# Altium schematic symbol library OSP_Symbols.SchLib: 53 symbols
Pins are listed as number, name and electrical type; pins without a type are passive.

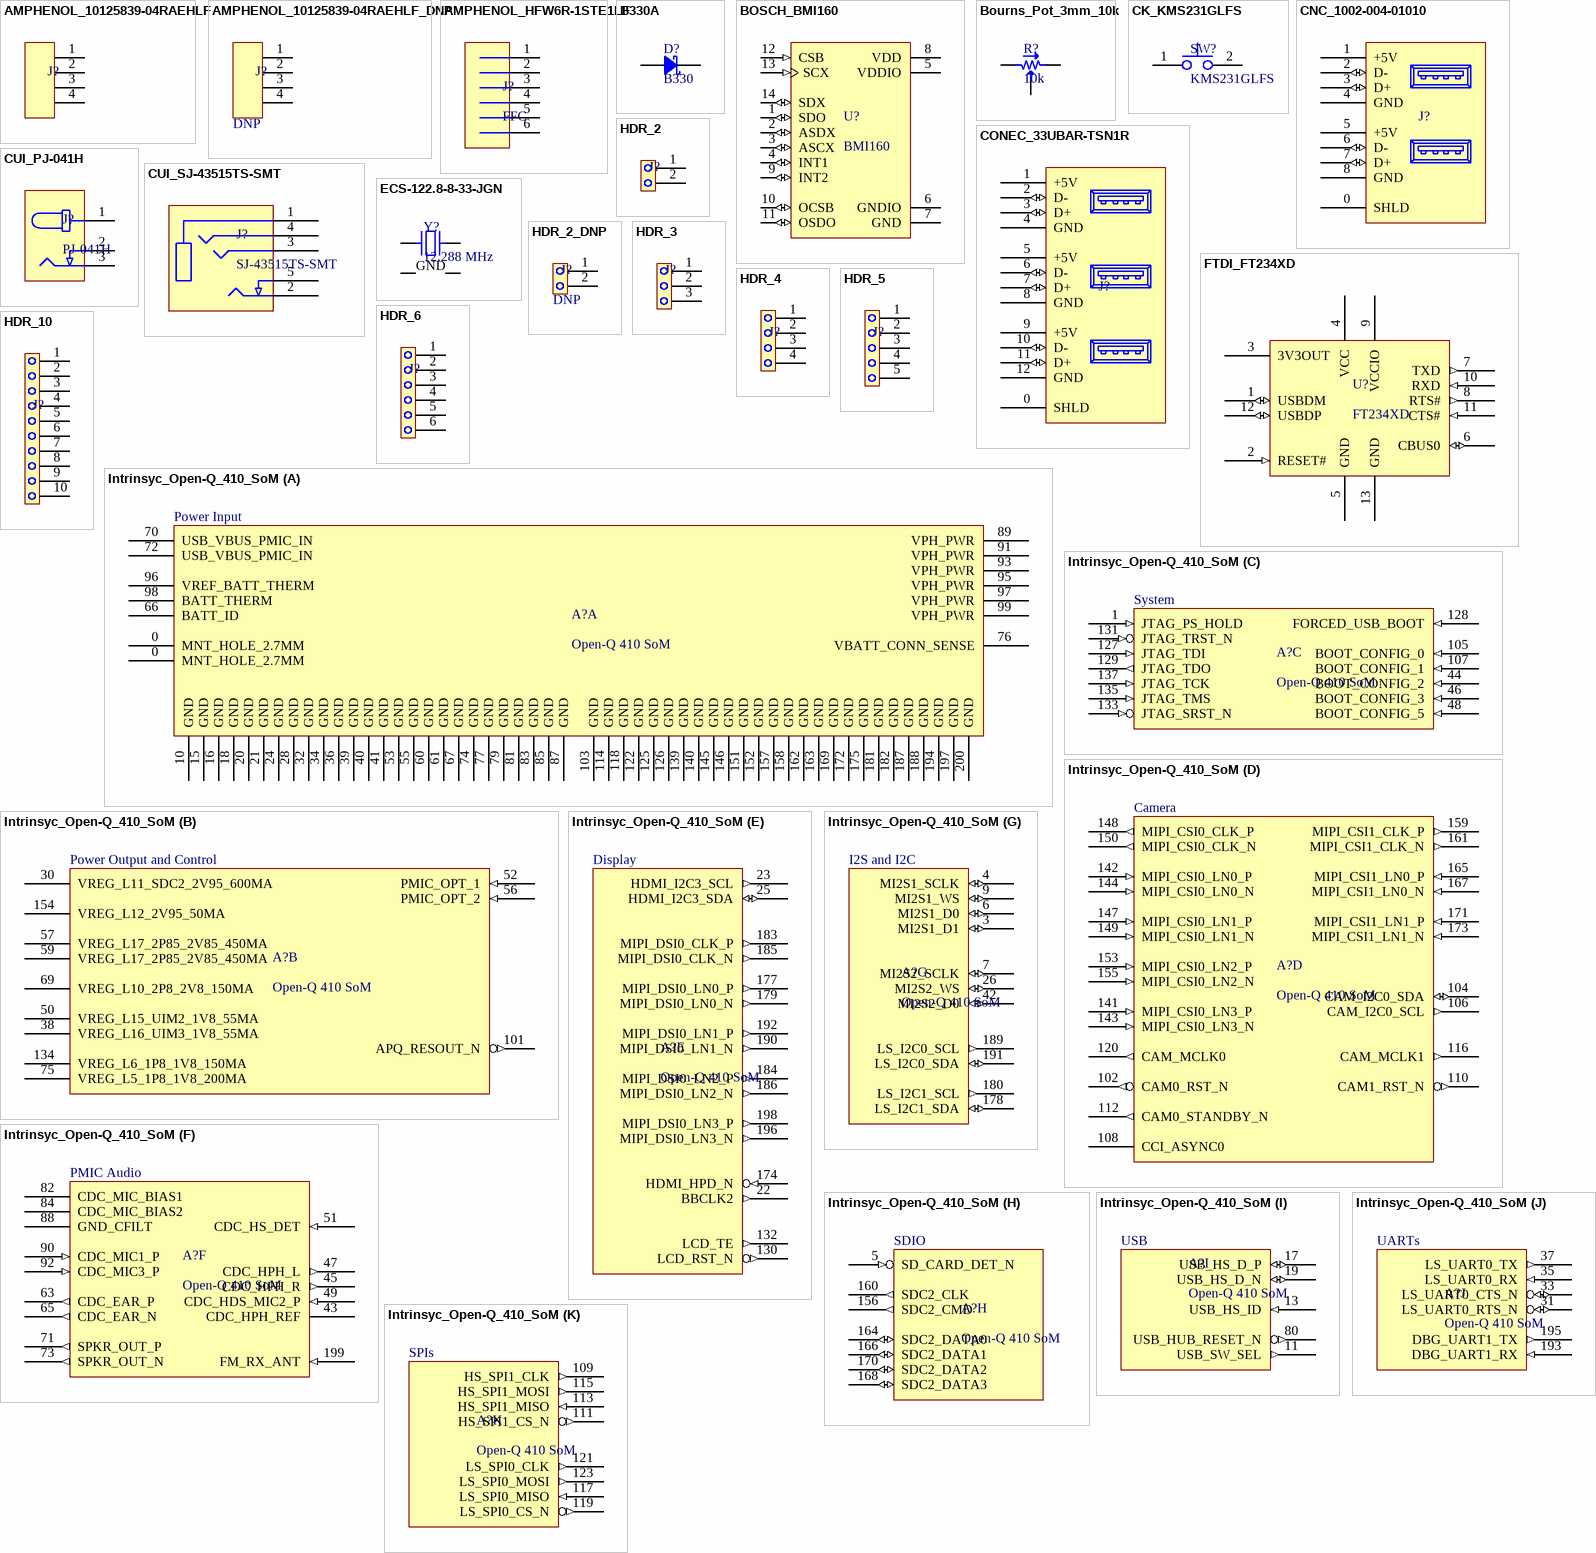
[diagram p0: symbols AMPHENOL_10125839-04RAEHLF to Intrinsyc_Open-Q_410_SoM]

## AMPHENOL_10125839-04RAEHLF
designator J?, comment Shallow  (value not drawn)
Amphenol 10125839-04RAEHLF
footprint AMPHENOL_10125839-04RAEHLF (Amphenol 10125839-04RAEHLF 4-pin shallow SMD connector)
pins: 1, 2, 3, 4

## AMPHENOL_10125839-04RAEHLF_DNP
designator J?, comment Shallow  (value not drawn)
Amphenol 10125839-04RAEHLF (Do Not Populate); DNP: DNP
footprint AMPHENOL_10125839-04RAEHLF_DNP (Amphenol 10125839-04RAEHLF 4-pin shallow SMD connector (DO NOT POPULATE))
pins: 1, 2, 3, 4

## AMPHENOL_HFW6R-1STE1LF
designator J?, comment FFC
Amphenol HFW6R-1STE1LF 6-pin flat flexible cable connector
footprint AMPHENOL_HFW6R-1STE1LF (Amphenol HFW6R-1STE1LF 6-pin flat flexible cable connector)
pins: 1, 2, 3, 4, 5, 6

## B330A
designator D?, comment B330
B330AE-13 Schottky Diode 3A 30V
footprint DO214AC SMA (Molded Diode, 2-Leads, Body 4.30x2.60mm, IPC Medium Density)
pins: 1, 2

## BOSCH_BMI160
designator U?, comment BMI160
BMI160 2.5 x 3 mm Tiaxial Accelerometer / Gyroscope Inertial Measurement Unit
footprint BOSCH_LGA14 (Bosch BMI160)
pins: 1 SDO (io), 2 ASDX (io), 3 ASCX (io), 4 INT1 (io), 5 VDDIO (power), 6 GNDIO (power), 7 GND (power), 8 VDD (power), 9 INT2 (io), 10 OCSB (io), 11 OSDO (io), 12 CSB (in), 13 SCX (in), 14 SDX (io)

## Bourns_Pot_3mm_10k
designator R?, comment 10k
3mm trimpot, 10k ohms
footprint BOURNS_TC33 (TC33 3mm trimpot)
pins: 1, 2, 3

## CK_KMS231GLFS
designator SW?, comment KMS231GLFS
C&K KMS231GLFS Right-angle SMT Tact Switch
footprint CK_KMS231GLFS (C&K KMS231GLFS Right-angle SMT Tact Switch)
pins: 1, 2

## CNC_1002-004-01010
designator J?  (value not drawn)
2x Stacked USB A Connector
footprint CNC_USBA_DUAL (2x USB A ports, 1002-004-01010)
pins: 0 SHLD (power), 1 +5V (power), 2 D- (io), 3 D+ (io), 4 GND (power), 5 +5V (power), 6 D- (io), 7 D+ (io), 8 GND (power)

## CONEC_33UBAR-TSN1R
designator J?  (value not drawn)
3x Stacked USB A Connector
footprint CONEC_33UBAR-TSN1R (3x USB A port)
pins: 0 SHLD (power), 1 +5V (power), 2 D- (io), 3 D+ (io), 4 GND (power), 5 +5V (power), 6 D- (io), 7 D+ (io), 8 GND (power), 9 +5V (power), 10 D- (io), 11 D+ (io), 12 GND (power)

## CUI_PJ-041H
designator J?, comment PJ-041H
CUI PJ-041H 1.65mm DC power jack
footprint CUI_PJ-041H (1.65mm DC power jack)
pins: 1 (power), 2 (power), 3 (power)

## CUI_SJ-43515TS-SMT
designator J?, comment SJ-43515TS-SMT
CUI SJ-43515TS-SMT 4-pos Switched Headphone Jack
footprint CUI_SJ-43515TS-SMT (CUI SJ-43515TS-SMT 4-pos Switched Headphone Jack)
pins: 1, 2, 3, 4, 5

## ECS-122.8-8-33-JGN
designator Y?, comment 12.288 MHz
ECS 12.288 MHz 8pF SMD Crystal ECS-122.8-8-33-JGN-TR
footprint XTAL_3.2x2.5 (Standard 4-pin SMT crystal, from ECS 32 datasheet)
pins: 1, 2 GND, 3, 4 GND

## FTDI_FT234XD
designator U?, comment FT234XD
FTDI FT234XD USB to UART
footprint FTDI_DFN12 (DFN/SON)
pins: 1 USBDM (io), 2 RESET# (in), 3 3V3OUT (power), 4 VCC (power), 5 GND (power), 6 CBUS0 (io), 7 TXD (out), 8 RTS# (out), 9 VCCIO (power), 10 RXD (in), 11 CTS# (in), 12 USBDP (io), 13 GND (power)

## HDR_2
designator J?  (value not drawn)
2-pin 0.1" header
footprint HDR_2 (2-pin 0.1" header)
pins: 1, 2

## HDR_2_DNP
designator J?  (value not drawn)
2-pin 0.1" header (no model); DNP: DNP
footprint HDR_2_DNP (2-pin 0.1" header (no model))
pins: 1, 2

## HDR_3
designator J?  (value not drawn)
3-pin 0.1" header
footprint HDR_3 (3-pin 0.1" header)
pins: 1, 2, 3

## HDR_4
designator J?  (value not drawn)
4-pin 0.1" header
footprint HDR_4 (4-pin 0.1" header)
pins: 1, 2, 3, 4

## HDR_5
designator J?  (value not drawn)
5-pin 0.1" header
footprint HDR_5 (5-pin 0.1" header)
pins: 1, 2, 3, 4, 5

## HDR_6
designator J?  (value not drawn)
6-pin 0.1" header
footprint HDR_6 (6-pin 0.1" header)
pins: 1, 2, 3, 4, 5, 6

## HDR_10
designator J?  (value not drawn)
10-pin 0.1" header
footprint HDR_10 (10-pin 0.1" header)
pins: 1, 2, 3, 4, 5, 6, 7, 8, 9, 10

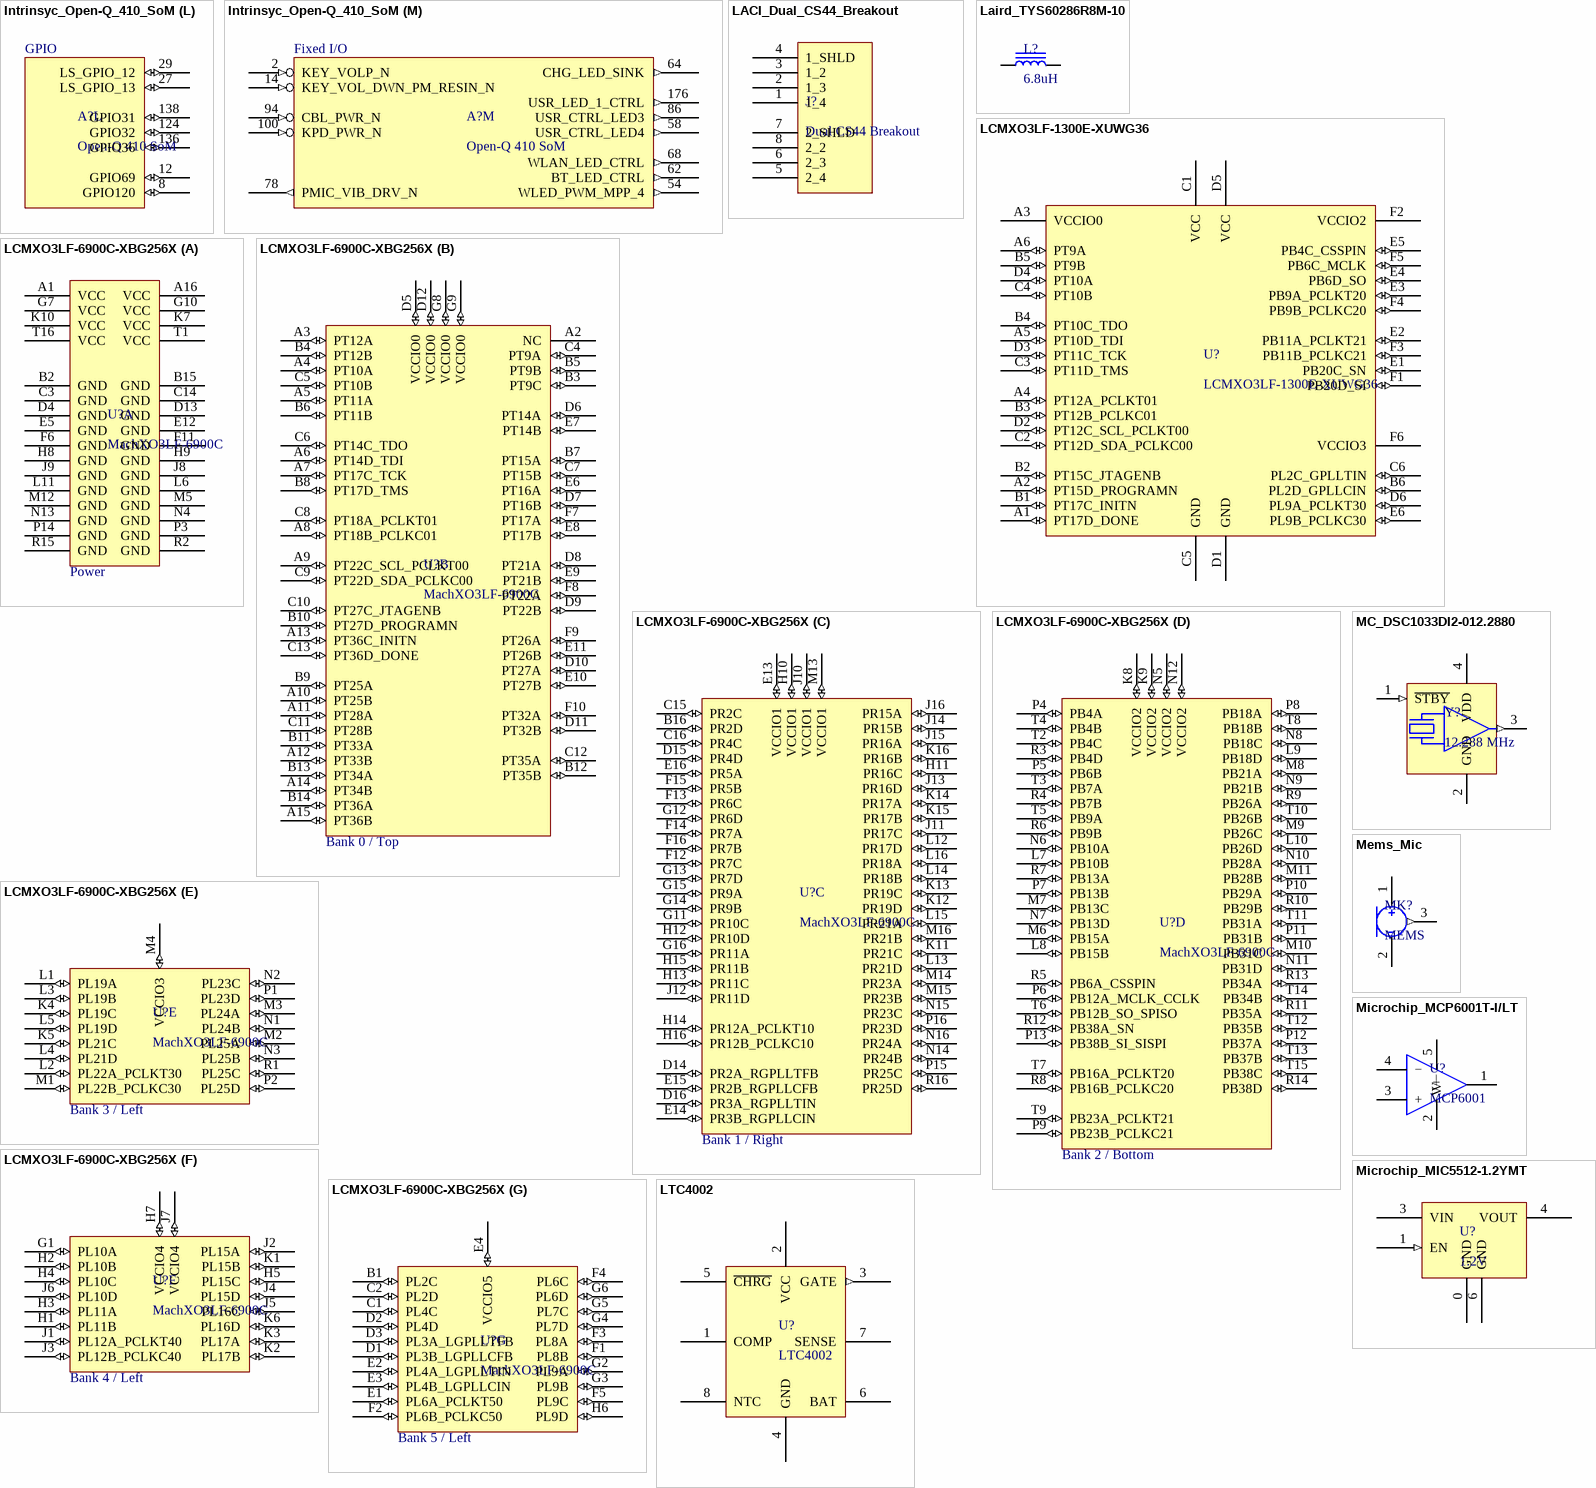
[diagram p1: symbols Intrinsyc_Open-Q_410_SoM to Microchip_MIC5512-1.2YMT]

## Intrinsyc_Open-Q_410_SoM
designator A?, comment Open-Q 410 SoM
Intrinsyc Open-Q 410 System on Module (APQ8016)
footprint OpenQ-410 (OpenQ-410 2x100 pin connector, APQ8016 SOM 26.5mmx44mm)
part A pins: 0 MNT_HOLE_2.7MM, 0 MNT_HOLE_2.7MM, 10 GND (power), 15 GND (power), 16 GND (power), 18 GND (power), 20 GND (power), 21 GND (power), 24 GND (power), 28 GND (power), 32 GND (power), 34 GND (power), 36 GND (power), 39 GND (power), 40 GND (power), 41 GND (power), 53 GND (power), 55 GND (power), 60 GND (power), 61 GND (power), 66 BATT_ID, 67 GND (power), 70 USB_VBUS_PMIC_IN (power), 72 USB_VBUS_PMIC_IN (power), 74 GND (power), 76 VBATT_CONN_SENSE, 77 GND (power), 79 GND (power), 81 GND (power), 83 GND (power), 85 GND (power), 87 GND (power), 89 VPH_PWR (power), 91 VPH_PWR (power), 93 VPH_PWR (power), 95 VPH_PWR (power), 96 VREF_BATT_THERM, 97 VPH_PWR (power), 98 BATT_THERM, 99 VPH_PWR (power), 103 GND (power), 114 GND (power), 118 GND (power), 122 GND (power), 125 GND (power), 126 GND (power), 139 GND (power), 140 GND (power), 145 GND (power), 146 GND (power), 151 GND (power), 152 GND (power), 157 GND (power), 158 GND (power), 162 GND (power), 163 GND (power), 169 GND (power), 172 GND (power), 175 GND (power), 181 GND (power), 182 GND (power), 187 GND (power), 188 GND (power), 194 GND (power), 197 GND (power), 200 GND (power)
part B pins: 30 VREG_L11_SDC2_2V95_600MA (power), 38 VREG_L16_UIM3_1V8_55MA (power), 50 VREG_L15_UIM2_1V8_55MA (power), 52 PMIC_OPT_1 (in), 56 PMIC_OPT_2 (in), 57 VREG_L17_2P85_2V85_450MA (power), 59 VREG_L17_2P85_2V85_450MA (power), 69 VREG_L10_2P8_2V8_150MA (power), 75 VREG_L5_1P8_1V8_200MA (power), 101 APQ_RESOUT_N (out), 134 VREG_L6_1P8_1V8_150MA (power), 154 VREG_L12_2V95_50MA (power)
part C pins: 1 JTAG_PS_HOLD (in), 44 BOOT_CONFIG_2 (in), 46 BOOT_CONFIG_3 (in), 48 BOOT_CONFIG_5 (in), 105 BOOT_CONFIG_0 (in), 107 BOOT_CONFIG_1 (in), 127 JTAG_TDI (in), 128 FORCED_USB_BOOT (in), 129 JTAG_TDO (out), 131 JTAG_TRST_N (in), 133 JTAG_SRST_N (in), 135 JTAG_TMS (in), 137 JTAG_TCK (in)
part D pins: 102 CAM0_RST_N (out), 104 CAM_I2C0_SDA (io), 106 CAM_I2C0_SCL (out), 108 CCI_ASYNC0, 110 CAM1_RST_N (out), 112 CAM0_STANDBY_N (out), 116 CAM_MCLK1 (out), 120 CAM_MCLK0 (out), 141 MIPI_CSI0_LN3_P (in), 142 MIPI_CSI0_LN0_P (in), 143 MIPI_CSI0_LN3_N (in), 144 MIPI_CSI0_LN0_N (in), 147 MIPI_CSI0_LN1_P (in), 148 MIPI_CSI0_CLK_P (out), 149 MIPI_CSI0_LN1_N (in), 150 MIPI_CSI0_CLK_N (out), 153 MIPI_CSI0_LN2_P (in), 155 MIPI_CSI0_LN2_N (in), 159 MIPI_CSI1_CLK_P (out), 161 MIPI_CSI1_CLK_N (out), 165 MIPI_CSI1_LN0_P (in), 167 MIPI_CSI1_LN0_N (in), 171 MIPI_CSI1_LN1_P (in), 173 MIPI_CSI1_LN1_N (in)
part E pins: 22 BBCLK2 (out), 23 HDMI_I2C3_SCL (out), 25 HDMI_I2C3_SDA (io), 130 LCD_RST_N (out), 132 LCD_TE (out), 174 HDMI_HPD_N (in), 177 MIPI_DSI0_LN0_P (out), 179 MIPI_DSI0_LN0_N (out), 183 MIPI_DSI0_CLK_P (out), 184 MIPI_DSI0_LN2_P (out), 185 MIPI_DSI0_CLK_N (out), 186 MIPI_DSI0_LN2_N (out), 190 MIPI_DSI0_LN1_N (out), 192 MIPI_DSI0_LN1_P (out), 196 MIPI_DSI0_LN3_N (out), 198 MIPI_DSI0_LN3_P (out)
part F pins: 43 CDC_HPH_REF (power), 45 CDC_HPH_R (out), 47 CDC_HPH_L (out), 49 CDC_HDS_MIC2_P (in), 51 CDC_HS_DET (in), 63 CDC_EAR_P (out), 65 CDC_EAR_N (out), 71 SPKR_OUT_P (out), 73 SPKR_OUT_N (out), 82 CDC_MIC_BIAS1 (power), 84 CDC_MIC_BIAS2 (power), 88 GND_CFILT (power), 90 CDC_MIC1_P (in), 92 CDC_MIC3_P (in), 199 FM_RX_ANT (in)
part G pins: 3 MI2S1_D1 (io), 4 MI2S1_SCLK (io), 6 MI2S1_D0 (io), 7 MI2S2_SCLK (io), 9 MI2S1_WS (io), 26 MI2S2_WS (io), 42 MI2S2_D0 (io), 178 LS_I2C1_SDA (io), 180 LS_I2C1_SCL (out), 189 LS_I2C0_SCL (out), 191 LS_I2C0_SDA (io)
part H pins: 5 SD_CARD_DET_N (in), 156 SDC2_CMD (out), 160 SDC2_CLK (out), 164 SDC2_DATA0 (io), 166 SDC2_DATA1 (io), 168 SDC2_DATA3 (io), 170 SDC2_DATA2 (io)
part I pins: 11 USB_SW_SEL (out), 13 USB_HS_ID (in), 17 USB_HS_D_P (io), 19 USB_HS_D_N (io), 80 USB_HUB_RESET_N (out)
part J pins: 31 LS_UART0_RTS_N (io), 33 LS_UART0_CTS_N (io), 35 LS_UART0_RX (in), 37 LS_UART0_TX (out), 193 DBG_UART1_RX (in), 195 DBG_UART1_TX (out)
part K pins: 109 HS_SPI1_CLK (out), 111 HS_SPI1_CS_N (out), 113 HS_SPI1_MISO (in), 115 HS_SPI1_MOSI (out), 117 LS_SPI0_MISO (in), 119 LS_SPI0_CS_N (out), 121 LS_SPI0_CLK (out), 123 LS_SPI0_MOSI (out)
part L pins: 8 GPIO120 (io), 12 GPIO69 (io), 27 LS_GPIO_13 (io), 29 LS_GPIO_12 (io), 124 GPIO32 (io), 136 GPIO36 (io), 138 GPIO31 (io)
part M pins: 2 KEY_VOLP_N (in), 14 KEY_VOL_DWN_PM_RESIN_N (in), 54 WLED_PWM_MPP_4 (out), 58 USR_CTRL_LED4 (out), 62 BT_LED_CTRL (out), 64 CHG_LED_SINK (out), 68 WLAN_LED_CTRL (out), 78 PMIC_VIB_DRV_N (out), 86 USR_CTRL_LED3 (out), 94 CBL_PWR_N (in), 100 KPD_PWR_N (in), 176 USR_LED_1_CTRL (out)
part A text: Power Input
part B text: Power Output and Control
part C text: System
part D text: Camera
part E text: Display
part F text: PMIC Audio
part G text: I2S and I2C
part H text: SDIO
part I text: USB
part J text: UARTs
part K text: SPIs
part L text: GPIO
part M text: Fixed I/O

## LACI_Dual_CS44_Breakout
designator J?, comment Dual CS44 Breakout
LACI Dual Sonion CS44 Breakout Board
footprint LACI_DUAL_CS44_BREAKOUT (LACI Dual Sonion CS44 Breakout Board)
pins: 1 1_4, 2 1_3, 3 1_2, 4 1_SHLD, 5 2_4, 6 2_3, 7 2_SHLD, 8 2_2

## Laird_TYS60286R8M-10
designator L?, comment 6.8uH
Laird TYS60286R8M-10 6.8uH 2.4A 47mOhms
footprint LAIRD_TYS6028 (Laird TYS6028 series inductor)
pins: 1, 2

## LCMXO3LF-1300E-XUWG36
designator U?
Lattice MachXO3 36-ball 2.5x2.5mm FPGA
footprint BGA36_WLCS_25x25_MachXO3 (Lattice MachXO3 WLCSP36)
pins: A1 PT17D_DONE (io), A2 PT15D_PROGRAMN (io), A3 VCCIO0 (power), A4 PT12A_PCLKT01 (io), A5 PT10D_TDI (io), A6 PT9A (io), B1 PT17C_INITN (io), B2 PT15C_JTAGENB (io), B3 PT12B_PCLKC01 (io), B4 PT10C_TDO (io), B5 PT9B (io), B6 PL2D_GPLLCIN (io), C1 VCC (power), C2 PT12D_SDA_PCLKC00 (io), C3 PT11D_TMS (io), C4 PT10B (io), C5 GND (power), C6 PL2C_GPLLTIN (io), D1 GND (power), D2 PT12C_SCL_PCLKT00 (io), D3 PT11C_TCK (io), D4 PT10A (io), D5 VCC (power), D6 PL9A_PCLKT30 (io), E1 PB20C_SN (io), E2 PB11A_PCLKT21 (io), E3 PB9A_PCLKT20 (io), E4 PB6D_SO (io), E5 PB4C_CSSPIN (io), E6 PL9B_PCLKC30 (io), F1 PB20D_SI (io), F2 VCCIO2 (power), F3 PB11B_PCLKC21 (io), F4 PB9B_PCLKC20 (io), F5 PB6C_MCLK (io), F6 VCCIO3 (power)

## LCMXO3LF-6900C-XBG256X
designator U?, comment MachXO3LF-6900C
Lattice MachXO3LF-6900C-5BG256C FPGA
footprint LCMXO3_caBGA_BG256 (BGA, 256-Leads, Body 14.00x14.00mmx1.70mm, Pitch 0.80mm)
part A pins: A1 VCC (power), A16 VCC (power), B2 GND (power), B15 GND (power), C3 GND (power), C14 GND (power), D4 GND (power), D13 GND (power), E5 GND (power), E12 GND (power), F6 GND (power), F11 GND (power), G7 VCC (power), G10 VCC (power), H8 GND (power), H9 GND (power), J8 GND (power), J9 GND (power), K7 VCC (power), K10 VCC (power), L6 GND (power), L11 GND (power), M5 GND (power), M12 GND (power), N4 GND (power), N13 GND (power), P3 GND (power), P14 GND (power), R2 GND (power), R15 GND (power), T1 VCC (power), T16 VCC (power)
part B pins: A2 NC, A3 PT12A (io), A4 PT10A (io), A5 PT11A (io), A6 PT14D_TDI (io), A7 PT17C_TCK (io), A8 PT18B_PCLKC01 (io), A9 PT22C_SCL_PCLKT00 (io), A10 PT25B (io), A11 PT28A (io), A12 PT33B (io), A13 PT36C_INITN (io), A14 PT34B (io), A15 PT36B (io), B3 PT9C (io), B4 PT12B (io), B5 PT9B (io), B6 PT11B (io), B7 PT15A (io), B8 PT17D_TMS (io), B9 PT25A (io), B10 PT27D_PROGRAMN (io), B11 PT33A (io), B12 PT35B (io), B13 PT34A (io), B14 PT36A (io), C4 PT9A (io), C5 PT10B (io), C6 PT14C_TDO (io), C7 PT15B (io), C8 PT18A_PCLKT01 (io), C9 PT22D_SDA_PCLKC00 (io), C10 PT27C_JTAGENB (io), C11 PT28B (io), C12 PT35A (io), C13 PT36D_DONE (io), D5 VCCIO0 (io), D6 PT14A (io), D7 PT16B (io), D8 PT21A (io), D9 PT22B (io), D10 PT27A (io), D11 PT32B (io), D12 VCCIO0 (io), E6 PT16A (io), E7 PT14B (io), E8 PT17B (io), E9 PT21B (io), E10 PT27B (io), E11 PT26B (io), F7 PT17A (io), F8 PT22A (io), F9 PT26A (io), F10 PT32A (io), G8 VCCIO0 (io), G9 VCCIO0 (io)
part C pins: B16 PR2D (io), C15 PR2C (io), C16 PR4C (io), D14 PR2A_RGPLLTFB (io), D15 PR4D (io), D16 PR3A_RGPLLTIN (io), E13 VCCIO1 (io), E14 PR3B_RGPLLCIN (io), E15 PR2B_RGPLLCFB (io), E16 PR5A (io), F12 PR7C (io), F13 PR6C (io), F14 PR7A (io), F15 PR5B (io), F16 PR7B (io), G11 PR10C (io), G12 PR6D (io), G13 PR7D (io), G14 PR9B (io), G15 PR9A (io), G16 PR11A (io), H10 VCCIO1 (io), H11 PR16C (io), H12 PR10D (io), H13 PR11C (io), H14 PR12A_PCLKT10 (io), H15 PR11B (io), H16 PR12B_PCLKC10 (io), J10 VCCIO1 (io), J11 PR17C (io), J12 PR11D (io), J13 PR16D (io), J14 PR15B (io), J15 PR16A (io), J16 PR15A (io), K11 PR21C (io), K12 PR19D (io), K13 PR19C (io), K14 PR17A (io), K15 PR17B (io), K16 PR16B (io), L12 PR17D (io), L13 PR21D (io), L14 PR18B (io), L15 PR21A (io), L16 PR18A (io), M13 VCCIO1 (io), M14 PR23A (io), M15 PR23B (io), M16 PR21B (io), N14 PR24B (io), N15 PR23C (io), N16 PR24A (io), P15 PR25C (io), P16 PR23D (io), R16 PR25D (io)
part D pins: K8 VCCIO2 (io), K9 VCCIO2 (io), L7 PB10B (io), L8 PB15B (io), L9 PB18D (io), L10 PB26D (io), M6 PB15A (io), M7 PB13C (io), M8 PB21A (io), M9 PB26C (io), M10 PB31C (io), M11 PB28B (io), N5 VCCIO2 (io), N6 PB10A (io), N7 PB13D (io), N8 PB18C (io), N9 PB21B (io), N10 PB28A (io), N11 PB31D (io), N12 VCCIO2 (io), P4 PB4A (io), P5 PB6B (io), P6 PB12A_MCLK_CCLK (io), P7 PB13B (io), P8 PB18A (io), P9 PB23B_PCLKC21 (io), P10 PB29A (io), P11 PB31B (io), P12 PB37A (io), P13 PB38B_SI_SISPI (io), R3 PB4D (io), R4 PB7B (io), R5 PB6A_CSSPIN (io), R6 PB9B (io), R7 PB13A (io), R8 PB16B_PCLKC20 (io), R9 PB26A (io), R10 PB29B (io), R11 PB35A (io), R12 PB38A_SN (io), R13 PB34A (io), R14 PB38D (io), T2 PB4C (io), T3 PB7A (io), T4 PB4B (io), T5 PB9A (io), T6 PB12B_SO_SPISO (io), T7 PB16A_PCLKT20 (io), T8 PB18B (io), T9 PB23A_PCLKT21 (io), T10 PB26B (io), T11 PB31A (io), T12 PB35B (io), T13 PB37B (io), T14 PB34B (io), T15 PB38C (io)
part E pins: K4 PL19C (io), K5 PL21C (io), L1 PL19A (io), L2 PL22A_PCLKT30 (io), L3 PL19B (io), L4 PL21D (io), L5 PL19D (io), M1 PL22B_PCLKC30 (io), M2 PL25A (io), M3 PL24A (io), M4 VCCIO3 (io), N1 PL24B (io), N2 PL23C (io), N3 PL25B (io), P1 PL23D (io), P2 PL25D (io), R1 PL25C (io)
part F pins: G1 PL10A (io), H1 PL11B (io), H2 PL10B (io), H3 PL11A (io), H4 PL10C (io), H5 PL15C (io), H7 VCCIO4 (io), J1 PL12A_PCLKT40 (io), J2 PL15A (io), J3 PL12B_PCLKC40 (io), J4 PL15D (io), J5 PL16C (io), J6 PL10D (io), J7 VCCIO4 (io), K1 PL15B (io), K2 PL17B (io), K3 PL17A (io), K6 PL16D (io)
part G pins: B1 PL2C (io), C1 PL4C (io), C2 PL2D (io), D1 PL3B_LGPLLCFB (io), D2 PL4D (io), D3 PL3A_LGPLLTFB (io), E1 PL6A_PCLKT50 (io), E2 PL4A_LGPLLTIN (io), E3 PL4B_LGPLLCIN (io), E4 VCCIO5 (io), F1 PL8B (io), F2 PL6B_PCLKC50 (io), F3 PL8A (io), F4 PL6C (io), F5 PL9C (io), G2 PL9A (io), G3 PL9B (io), G4 PL7D (io), G5 PL7C (io), G6 PL6D (io), H6 PL9D (io)
part A text: Power
part B text: Bank 0 / Top
part C text: Bank 1 / Right
part D text: Bank 2 / Bottom
part E text: Bank 3 / Left
part F text: Bank 4 / Left
part G text: Bank 5 / Left

## LTC4002
designator U?
Analog / Linear 1.5A Single Cell Li-Ion Battery Charger
footprint AD_LT_S8 (SOIC8 by Analog Devices / Linear Technology)
pins: 1 COMP, 2 VCC (power), 3 GATE (out), 4 GND (power), 5 ~{CHRG} (oc), 6 BAT, 7 SENSE, 8 NTC

## MC_DSC1033DI2-012.2880
designator Y?, comment 12.288 MHz
Microchip 12.288 MHz SMD MEMS Oscillator; DIGIKEY_PN: DSC1033DI2-012.2880-ND
footprint OSC_2.5x2.0mm (SMD MEMS oscillator, 2.5x2.0 mm)
pins: 1 ~{STBY} (in), 2 GND (power), 3 OUT (out), 4 VDD (power)

## Mems_Mic
designator MK?, comment MEMS
Generic 3-pin bottom mount MEMS mic
footprint MEMS_MIC (Generic 3-pin bottom mount MEMS mic)
pins: 1 VDD (power), 2 GND (power), 3 (out)

## Microchip_MCP6001T-I/LT
designator U?, comment MCP6001
Microchip MCP6001 RRIO Op-Amp (SC70)
footprint MICROCHIP_SC70_SOT353 (SC70 / SOT353, 5-Leads, Body 2.03x2.10mm, Pitch 0.65mm, IPC Medium Density)
pins: 1 O, 2 V− (power), 3 +, 4 −, 5 V+ (power)

## Microchip_MIC5512-1.2YMT
designator U?, comment 1.2V
Microchip MIC5512-1.2YMT 1.2V 300mA linear regulator
footprint MICROCHIP_MIC5512 (Microchip MIC5512-1.2YMT)
pins: 0 GND (power), 1 EN (in), 3 VIN (power), 4 VOUT (power), 6 GND (power)

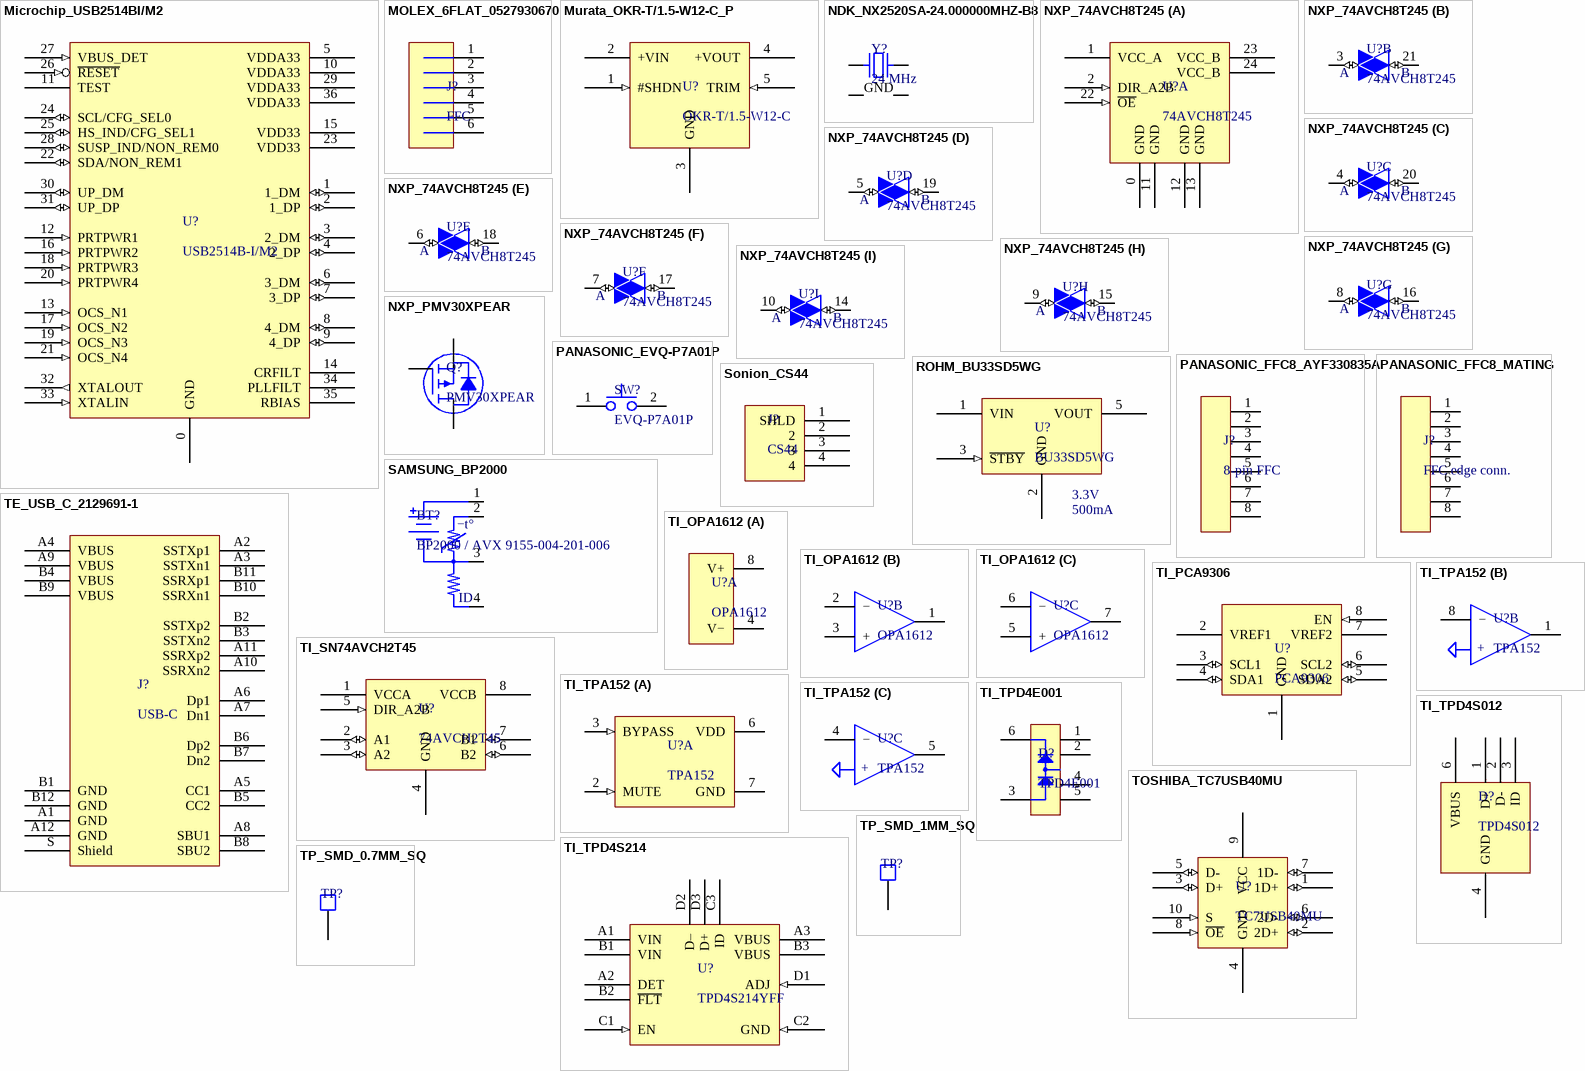
[diagram p2: symbols Microchip_USB2514BI/M2 to TP_SMD_1MM_SQ]

## Microchip_USB2514BI/M2
designator U?, comment USB2514B-I/M2
Microchip 4-port USB Hub
footprint MICROCHIP_SQFN36 (Microchip 36-pin SQFN package from USB2514B-I/M2 datasheet)
pins: 0 GND (power), 1 1_DM (io), 2 1_DP (io), 3 2_DM (io), 4 2_DP (io), 5 VDDA33 (power), 6 3_DM (io), 7 3_DP (io), 8 4_DM (io), 9 4_DP (io), 10 VDDA33 (power), 11 TEST, 12 PRTPWR1 (in), 13 OCS_N1 (in), 14 CRFILT (power), 15 VDD33 (power), 16 PRTPWR2 (in), 17 OCS_N2 (in), 18 PRTPWR3 (in), 19 OCS_N3 (in), 20 PRTPWR4 (in), 21 OCS_N4 (in), 22 SDA/NON_REM1 (io), 23 VDD33 (power), 24 SCL/CFG_SEL0 (io), 25 HS_IND/CFG_SEL1 (io), 26 ~{RESET} (in), 27 VBUS_DET (in), 28 SUSP_IND/NON_REM0 (io), 29 VDDA33 (power), 30 UP_DM (io), 31 UP_DP (io), 32 XTALOUT (out), 33 XTALIN (in), 34 PLLFILT (power), 35 RBIAS (power), 36 VDDA33 (power)

## MOLEX_6FLAT_0527930670
designator J?, comment FFC
Molex 0527930670 6-pin flat flexible cable connector
footprint MOLEX_0527930670 (Molex 0527930670 6-pin flat flexible cable connector)
pins: 1, 2, 3, 4, 5, 6

## Murata_OKR-T/1.5-W12-C_P
designator U?, comment OKR-T/1.5-W12-C
Murata OKR-T/1.5-W12-C Adjustable DC-DC Converter
footprint MURATA_OKR-T1.5-W12-C (Murata Adjustable DC-DC)
pins: 1 #SHDN (in), 2 +VIN (power), 3 GND (power), 4 +VOUT (power), 5 TRIM (in)

## NDK_NX2520SA-24.000000MHZ-B8
designator Y?, comment 24 MHz
NDK Crystal, 24.000000MHz
footprint NDK_NX2520SA (NDK Crystal)
pins: 1, 2 GND, 3, 4 GND

## NXP_74AVCH8T245
designator U?, comment 74AVCH8T245
NXP 74AVCH8T245BQ,118 8-wire level shifter
footprint NXP_DHVQFN24 (QFN, 24-Leads, Body 3.50x5.50mm, Pitch 1.50mm/0.50mm, Thermal Pad 2.10x4.10mm, IPC Medium Density)
part A pins: 0 GND (power), 1 VCC_A (power), 2 DIR_A2B (in), 11 GND (power), 12 GND (power), 13 GND (power), 22 ~{OE} (in), 23 VCC_B (power), 24 VCC_B (power)
part B pins: 3 A (io), 21 B (io)
part C pins: 4 A (io), 20 B (io)
part D pins: 5 A (io), 19 B (io)
part E pins: 6 A (io), 18 B (io)
part F pins: 7 A (io), 17 B (io)
part G pins: 8 A (io), 16 B (io)
part H pins: 9 A (io), 15 B (io)
part I pins: 10 A (io), 14 B (io)

## NXP_PMV30XPEAR
designator Q?, comment PMV30XPEAR
PMV30XPEAR PMOS 20V -5.3A 28mOhms
footprint NXP_SOT23 (NXP SOT23 from PMV30XPEA)
pins: 1 G, 2 S, 3 D

## PANASONIC_EVQ-P7A01P
designator SW?, comment EVQ-P7A01P
Tact Switch SMT Right Angle
footprint PANASONIC_EVQ-P7A
pins: 1, 2

## PANASONIC_FFC8_AYF330835A
designator J?, comment 8-pin FFC
Panasonic AYF330835A 8-pin FFC connector, 0.3mm pitch, top and bottom
footprint PANASONIC_FFC8_AYF330835A (Panasonic AYF330835A 8-pin FFC connector)
pins: 1, 2, 3, 4, 5, 6, 7, 8

## PANASONIC_FFC8_MATING
designator J?, comment FFC edge conn.
Mating FFC edge connector to Panasonic AYF330835A
footprint PANASONIC_FFC8_MALE (Mating FFC edge to AYF330835A)
pins: 1, 2, 3, 4, 5, 6, 7, 8

## ROHM_BU33SD5WG
designator U?, comment BU33SD5WG  VOLTAGE: 3.3V  CURRENT: 500mA
ROHM BU33SD5WG-TR 3.3V 500mA LDO
footprint ROHM_SSOP5 (ROHM SSOP5 from BUxxSD5 series datasheet)
pins: 1 VIN (power), 2 GND (power), 3 ~{STBY} (in), 5 VOUT (power)

## SAMSUNG_BP2000
designator BT?, comment BP2000 / AVX 9155-004-201-006
Samsung BP2000 2000mAh battery for Galaxy Camera 2, connector AVX 9155-004-201-006
footprint SAMSUNG_BP2000 (Samsung BP2000 2000mAh battery for Galaxy Camera 2)
pins: 1 + (power), 2 NTC, 3 − (power), 4 ID
text: −t°

## Sonion_CS44
designator J?, comment CS44
Sonion CS44 Miniature Connector - Socket
footprint SONION_CS44
pins: 1 SHLD, 2, 3, 4

## TE_USB_C_2129691-1
designator J?, comment USB-C
TE 2129691-1 USB-C Socket
footprint TE_USB-C_2129691-1 (USB-C Hybrid In-Board Mount)
pins: A1 GND, A2 SSTXp1, A3 SSTXn1, A4 VBUS, A5 CC1, A6 Dp1, A7 Dn1, A8 SBU1, A9 VBUS, A10 SSRXn2, A11 SSRXp2, A12 GND, B1 GND, B2 SSTXp2, B3 SSTXn2, B4 VBUS, B5 CC2, B6 Dp2, B7 Dn2, B8 SBU2, B9 VBUS, B10 SSRXn1, B11 SSRXp1, B12 GND, S Shield

## TI_OPA1612
designator U?, comment OPA1612
TI OPA1612 High-Performance Audio Op-Amp
footprint TI_SOIC8 (SOIC, 8-Leads, Body 4.90x3.90mm, Pitch 1.27mm, IPC Medium Density)
part A pins: 4 V− (power), 8 V+ (power)
part B pins: 1 O1, 2 −, 3 +
part C pins: 5 +, 6 −, 7 O2

## TI_PCA9306
designator U?, comment PCA9306
TI PCA9306 I2C Level Shifter
footprint TI_VSSOP8 (TSOP, 8-Leads, Body 3.00x3.00mm, Pitch 0.65mm, IPC Medium Density)
pins: 1 GND (power), 2 VREF1 (power), 3 SCL1 (io), 4 SDA1 (io), 5 SDA2 (io), 6 SCL2 (io), 7 VREF2 (power), 8 EN (in)

## TI_SN74AVCH2T45
designator U?, comment 74AVCH2T45
TI SN74AVCH2T45 Dual Level Shifter
footprint TI_VSSOP8 (TSOP, 8-Leads, Body 3.00x3.00mm, Pitch 0.65mm, IPC Medium Density)
pins: 1 VCCA (power), 2 A1 (io), 3 A2 (io), 4 GND (power), 5 DIR_A2B (in), 6 B2 (io), 7 B1 (io), 8 VCCB (power)

## TI_TPA152
designator U?, comment TPA152
TI TPA152 Stereo Audio Power Amplifier
footprint TI_SOIC8 (SOIC, 8-Leads, Body 4.90x3.90mm, Pitch 1.27mm, IPC Medium Density)
part A pins: 2 MUTE (in), 3 BYPASS (in), 6 VDD (power), 7 GND (power)
part B pins: 1 VO1, 8 −
part C pins: 4 −, 5 VO2
part B text: +
part C text: +

## TI_TPD4E001
designator D?, comment TPD4E001
TI TPD4E001 4-channel TVS ESD protection diodes
footprint TI_SOT-563_DRL (SOTFL, 6-Leads, Body 1.60x1.60mm, Pitch 0.50mm, IPC Medium Density)
pins: 1, 2, 3 (power), 4, 5, 6 (power)

## TI_TPD4S012
designator D?, comment TPD4S012
TI TPD4S012 USB ESD Protection
footprint TI_SON6 (Small Outline No-Lead, 6 pin)
pins: 1 D+, 2 D-, 3 ID, 4 GND, 6 VBUS

## TI_TPD4S214
designator U?, comment TPD4S214YFF
USB A Protection + Power Control
footprint TI_DSBGA12_YFF0012 (TI 12-pin BGA YFF0012 from TPD4S214)
pins: A1 VIN (power), A2 DET (oc), A3 VBUS (power), B1 VIN (power), B2 ~{FLT} (oc), B3 VBUS (power), C1 EN (in), C2 GND (in), C3 ID, D1 ADJ (in), D2 D–, D3 D+

## TOSHIBA_TC7USB40MU
designator U?, comment TC7USB40MU
SPDT USB Switch
footprint TOSHIBA_TC7USB40MU (SPDT USB switch)
pins: 1 1D+ (io), 2 2D+ (io), 3 D+ (io), 4 GND (power), 5 D- (io), 6 2D- (io), 7 1D- (io), 8 ~{OE} (in), 9 VCC (power), 10 S (in)

## TP_SMD_0.7MM_SQ
designator TP?  (value not drawn)
0.7mm Square SMD Test Point; DNP: DNP
footprint TP_SMD_0.7MM_SQ (0.7mm square SMD test point)
pins: 1

## TP_SMD_1MM_SQ
designator TP?  (value not drawn)
1mm Square SMD Test Point; DNP: DNP
footprint TP_SMD_1MM_SQ (1mm square SMD test point)
pins: 1